# Altium integrated library Analog Devices Data Converters Digital-to-Analog Converters.IntLib: 2231 symbols (part 118 of 181)
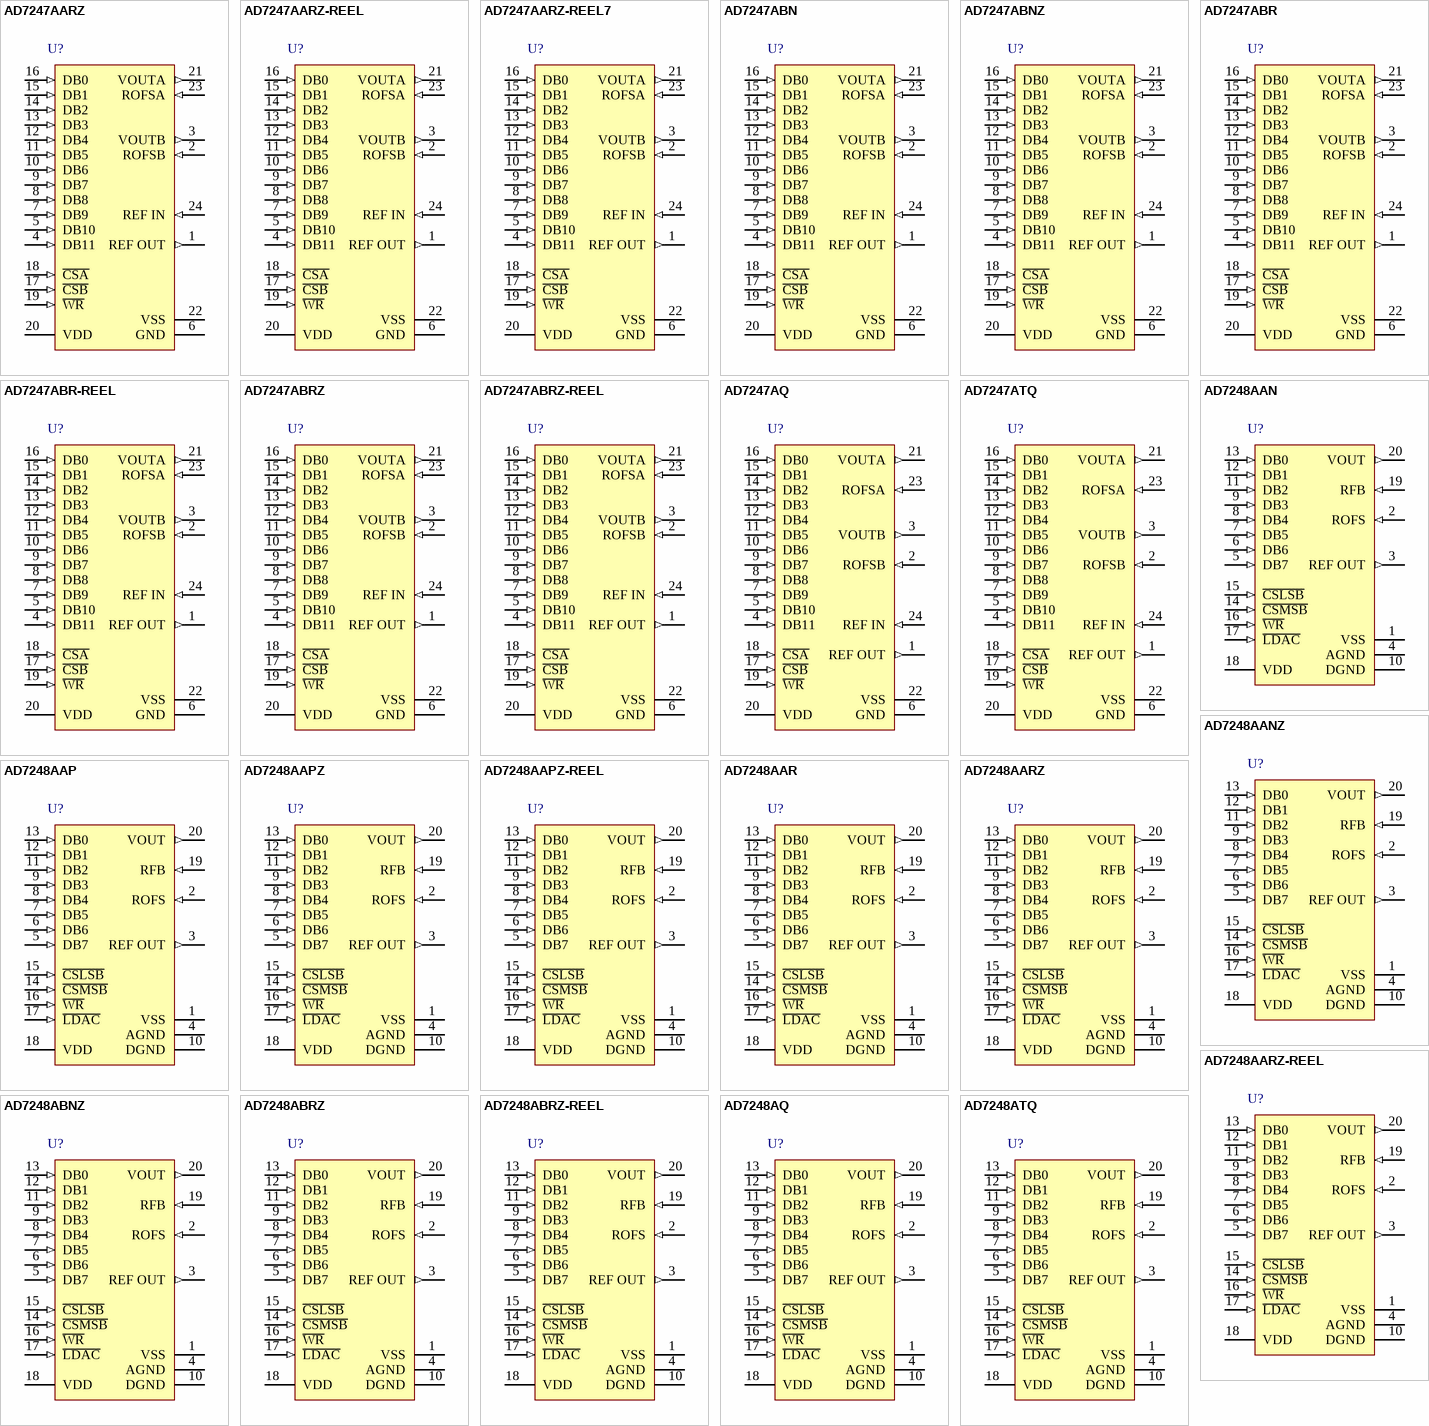
[diagram p231: symbols AD7247AARZ to AD7248ATQ]

## AD7248ATQ
designator U?
Single 12-Bit LC2MOS DACPORT, 0 to +70 degC, Q-20, Tube; Generic Part Number: AD7248A; Manufacturer: Analog Devices; PartNumber: AD7248ATQ; # DAC Outputs: 1; Max V+: +16.5V; Resolution (Bits): 12; Settling Time: 7µs; Single Supply: Yes; DatasheetVersion: Rev.B; PackageVersion: Dec-2004; PackageReference: Q-20; PackageDescription: 20-Lead Ceramic Dual In-Line Package [CERDIP]; Supplier 1: Digi-Key; Supplier Part Number 1: AD7248ATQ-ND; Supplier 2: Mouser; Supplier Part Number 2: 584-AD7248ATQ; Packing: Tube; RoHS: N; Mounting Technology: Through Hole; ComponentLink1Description: Manufacturer URL; ComponentLink1URL: http://www.analog.com/en/index.html; ComponentLink2Description: Datasheet; ComponentLink2URL: http://www.analog.com/static/imported-files/data_sheets/AD7245A_7248A.pdf; ComponentLink3Description: Package Specification; ComponentLink3URL: http://www.analog.com/static/imported-files/packages/50516416473314Q_20.pdf; ComponentLink4Description: Product URL; ComponentLink4URL: http://www.analog.com/en/digital-to-analog-converters/da-converters/ad7248a/products/product.html
footprint Q-20 (DIP, 20-Leads, Row Spacing 7.62mm, Pitch 2.54mm, Body 25.9x6.7mm)
pins: 1 VSS (power) "Negative Supply Voltage (0 V for single supply operation).", 2 ROFS (in) "Bipolar Offset Resistor. This provides access to the on-chip application resistors and allows different output voltage ranges.", 3 REF OUT (out) "Reference Output. The on-chip reference is provided at this pin and is used when configuring the part for bipolar outputs.", 4 AGND (power) "Analog Ground.", 5 DB7 (in) "Data Bit 7.", 6 DB6 (in) "Data Bit 6.", 7 DB5 (in) "Data Bit 5.", 8 DB4 (in) "Data Bit 4.", 9 DB3 (in) "Data Bit 3.", 10 DGND (power) "Digital Ground.", 11 DB2 (in) "Data Bit 2/Data Bit 10.", 12 DB1 (in) "Data Bit 1/Data Bit 9.", 13 DB0 (in) "Data Bit 0 (LSB)/Data Bit 8.", 14 ~{CSMSB} (in) "Chip Select Input for MS Nibble. (Active LOW). This selects the upper 4 bits of the input latch. Input data is right justified.", 15 ~{CSLSB} (in) "Chip Select Input for LS byte. (Active LOW). This selects the lower 8 bits of the input latch.", 16 ~{WR} (in) "Write Input. This is used in conjunction with C\S\M\S\B\ and C\S\L\S\B\ to load data into the input latch of the AD7248A.", 17 ~{LDAC} (in) "Load DAC Input (Active LOW). This is an asynchronous input which when active transfers data from the input latch to the DAC latch.", 18 VDD (power) "Positive Supply Voltage.", 19 RFB (in) "Feedback Resistor. This allows access to the amplifier's feedback loop.", 20 VOUT (out) "Output Voltage. Three different output voltage ranges can be chosen: 0 V to 5 V, 0 V to 10 V or -5 V to +5 V."

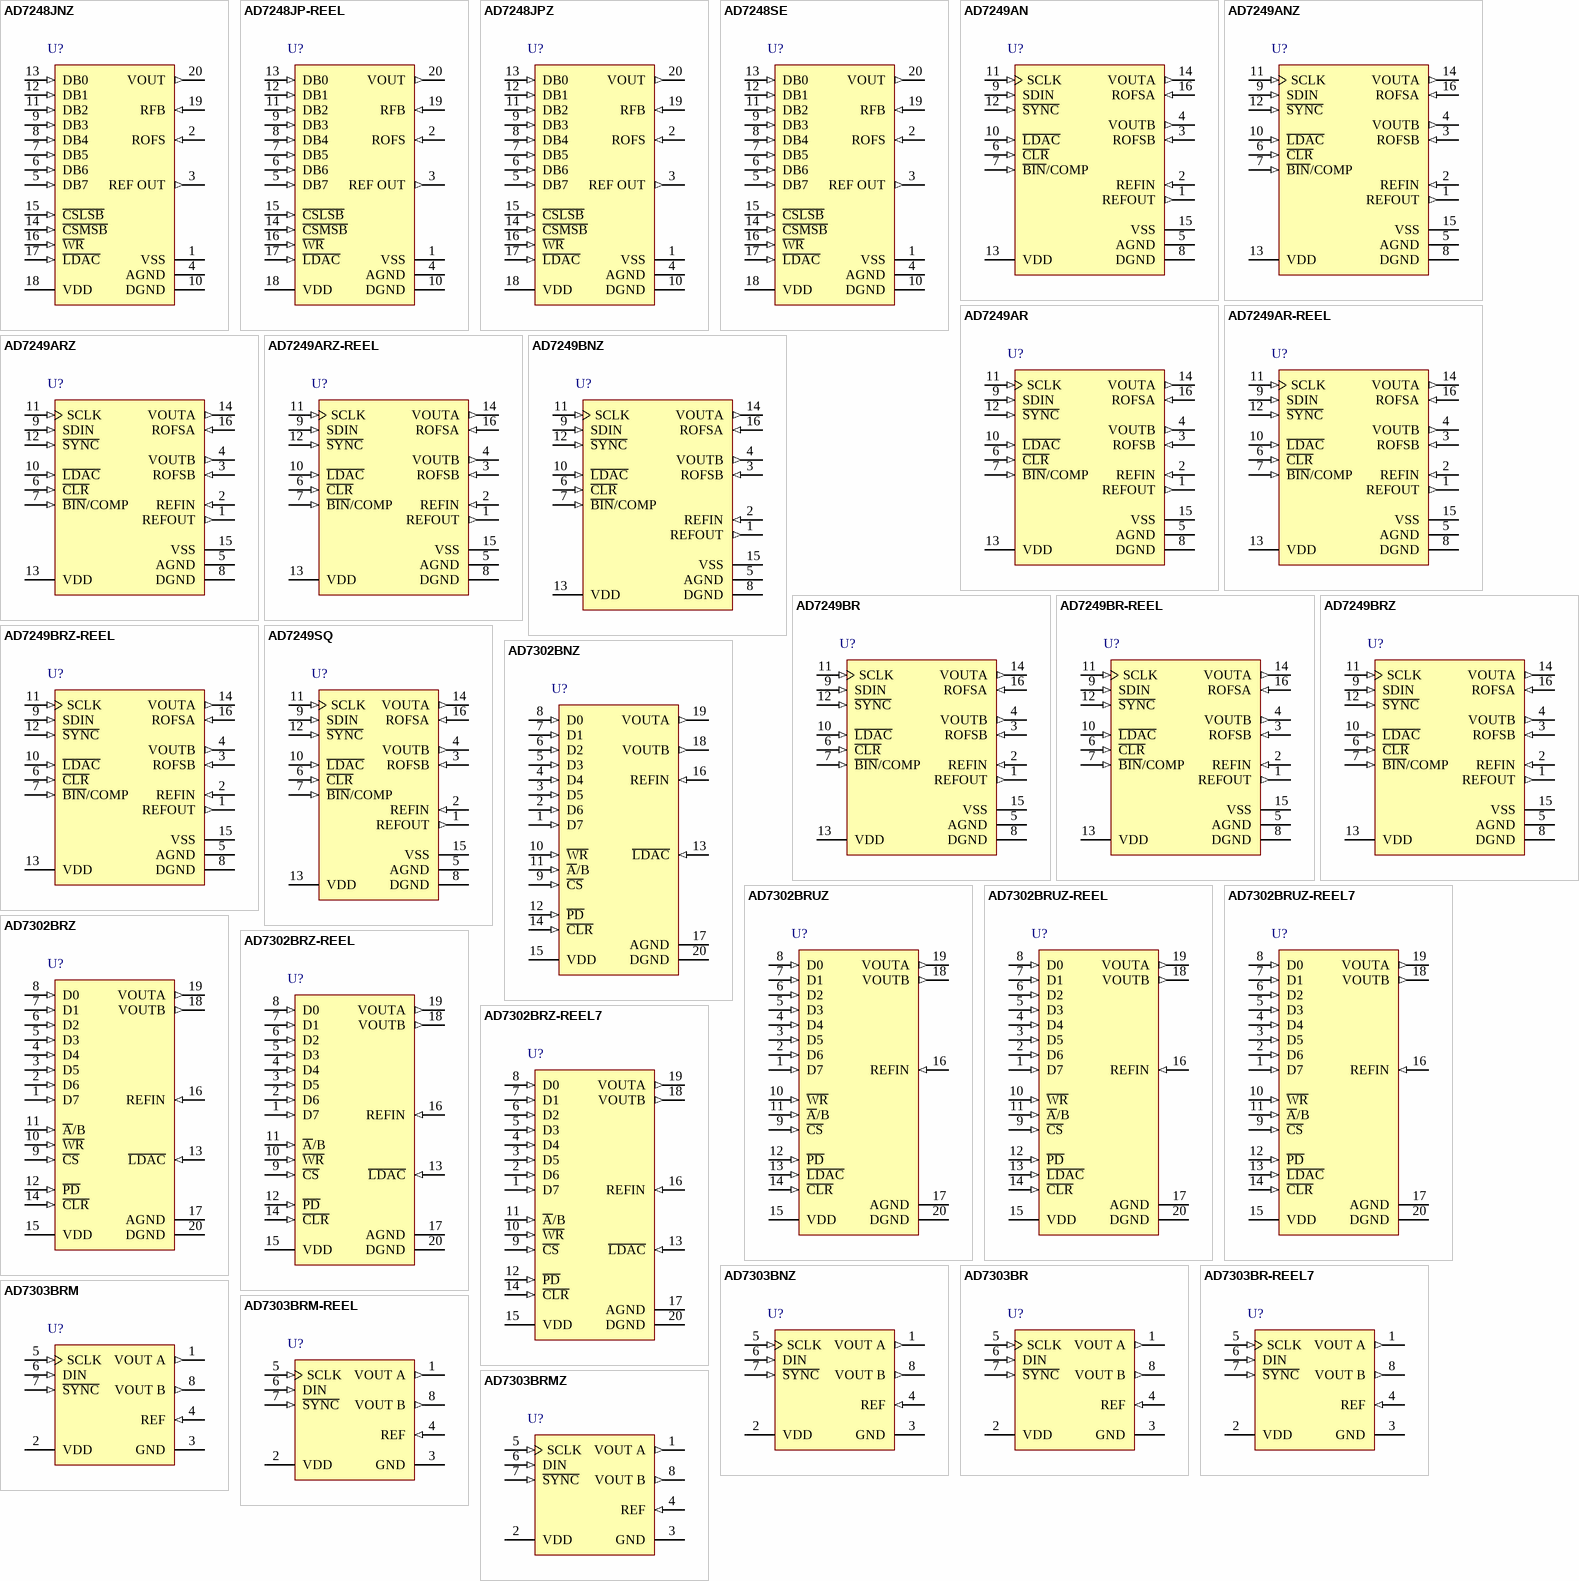
[diagram p63: symbols AD7248JNZ to AD7303BRMZ]

## AD7248JNZ
designator U?
Single 12-Bit LC2MOS DACPORT, 0 to +70 degC, N-20, Pb-Free, Tube; Generic Part Number: AD7248A; Manufacturer: Analog Devices; PartNumber: AD7248JNZ; # DAC Outputs: 1; Max V+: +16.5V; Resolution (Bits): 12; Settling Time: 7µs; Single Supply: Yes; DatasheetVersion: Rev.B; PackageVersion: 070706-A; PackageReference: N-20; PackageDescription: 20-Lead Plastic Dual In-Line Package [PDIP] Narrow Body; Supplier 1: Digi-Key; Supplier Part Number 1: AD7248JNZ-ND; Supplier 2: Farnell; Supplier Part Number 2: 1523780; Supplier 3: Farnell; Supplier Part Number 3: 1079369; Supplier 4: Newark; Supplier Part Number 4: 31M4227; Supplier 5: Newark; Supplier Part Number 5: 19M0852; Supplier 6: Mouser; Supplier Part Number 6: 584-AD7248JNZ; Packing: Tube; RoHS: Y; Mounting Technology: Through Hole; Code_JEDEC: MS-001; ComponentLink1Description: Manufacturer URL; ComponentLink1URL: http://www.analog.com/en/index.html; ComponentLink2Description: Datasheet; ComponentLink2URL: http://www.analog.com/static/imported-files/data_sheets/AD7245A_7248A.pdf; ComponentLink3Description: Package Specification; ComponentLink3URL: http://www.analog.com/static/imported-files/packages/50601349676519N_20.pdf; ComponentLink4Description: Product URL; ComponentLink4URL: http://www.analog.com/en/digital-to-analog-converters/da-converters/ad7248a/products/product.html
footprint N-20 (DIP, 20-Leads, Row Spacing 7.62mm, Pitch 2.54mm, Body 25.9x6.6mm)
pins: 1 VSS (power) "Negative Supply Voltage (0 V for single supply operation).", 2 ROFS (in) "Bipolar Offset Resistor. This provides access to the on-chip application resistors and allows different output voltage ranges.", 3 REF OUT (out) "Reference Output. The on-chip reference is provided at this pin and is used when configuring the part for bipolar outputs.", 4 AGND (power) "Analog Ground.", 5 DB7 (in) "Data Bit 7.", 6 DB6 (in) "Data Bit 6.", 7 DB5 (in) "Data Bit 5.", 8 DB4 (in) "Data Bit 4.", 9 DB3 (in) "Data Bit 3.", 10 DGND (power) "Digital Ground.", 11 DB2 (in) "Data Bit 2/Data Bit 10.", 12 DB1 (in) "Data Bit 1/Data Bit 9.", 13 DB0 (in) "Data Bit 0 (LSB)/Data Bit 8.", 14 ~{CSMSB} (in) "Chip Select Input for MS Nibble. (Active LOW). This selects the upper 4 bits of the input latch. Input data is right justified.", 15 ~{CSLSB} (in) "Chip Select Input for LS byte. (Active LOW). This selects the lower 8 bits of the input latch.", 16 ~{WR} (in) "Write Input. This is used in conjunction with C\S\M\S\B\ and C\S\L\S\B\ to load data into the input latch of the AD7248A.", 17 ~{LDAC} (in) "Load DAC Input (Active LOW). This is an asynchronous input which when active transfers data from the input latch to the DAC latch.", 18 VDD (power) "Positive Supply Voltage.", 19 RFB (in) "Feedback Resistor. This allows access to the amplifier’s feedback loop.", 20 VOUT (out) "Output Voltage. Three different output voltage ranges can be chosen: 0 V to 5 V, 0 V to 10 V or -5 V to +5 V."

## AD7248JP-REEL
designator U?
Single 12-Bit LC2MOS DACPORT, 0 to +70 degC, P-20A, Reel; Generic Part Number: AD7248A; Manufacturer: Analog Devices; PartNumber: AD7248JP-REEL; # DAC Outputs: 1; Max V+: +16.5V; Resolution (Bits): 12; Settling Time: 7µs; Single Supply: Yes; DatasheetVersion: Rev.B; PackageVersion: Nov-2002; PackageReference: P-20A; PackageDescription: 20-Lead Plastic Leaded Chip Carrier [PLCC]; Supplier 1: Digi-Key; Supplier Part Number 1: AD7248JP-REELTR-ND; Supplier 2: Digi-Key; Supplier Part Number 2: AD7248JP-REELCT-ND; Supplier 3: Digi-Key; Supplier Part Number 3: AD7248JP-REELDKR-ND; Supplier 4: Mouser; Supplier Part Number 4: 584-AD7248JP-R; Packing: Reel; RoHS: N; Mounting Technology: Surface Mount; Code_JEDEC: MO-047-AA; ComponentLink1Description: Manufacturer URL; ComponentLink1URL: http://www.analog.com/en/index.html; ComponentLink2Description: Datasheet; ComponentLink2URL: http://www.analog.com/static/imported-files/data_sheets/AD7245A_7248A.pdf; ComponentLink3Description: Package Specification; ComponentLink3URL: http://www.analog.com/static/imported-files/packages/3121431516544404277643669223804694P20A.pdf; ComponentLink4Description: Product URL; ComponentLink4URL: http://www.analog.com/en/digital-to-analog-converters/da-converters/ad7248a/products/product.html
footprint P-20A_N (Leaded Chip Carrier, 20-Leads, Body 9x9mm, Pitch 1.27mm, IPC Medium Density)
footprint P-20A_L (Leaded Chip Carrier, 20-Leads, Body 9x9mm, Pitch 1.27mm, IPC High Density)
footprint P-20A_M (Leaded Chip Carrier, 20-Leads, Body 9x9mm, Pitch 1.27mm, IPC Low Density)
pins: 1 VSS (power) "Negative Supply Voltage (0 V for single supply operation).", 2 ROFS (in) "Bipolar Offset Resistor. This provides access to the on-chip application resistors and allows different output voltage ranges.", 3 REF OUT (out) "Reference Output. The on-chip reference is provided at this pin and is used when configuring the part for bipolar outputs.", 4 AGND (power) "Analog Ground.", 5 DB7 (in) "Data Bit 7.", 6 DB6 (in) "Data Bit 6.", 7 DB5 (in) "Data Bit 5.", 8 DB4 (in) "Data Bit 4.", 9 DB3 (in) "Data Bit 3.", 10 DGND (power) "Digital Ground.", 11 DB2 (in) "Data Bit 2/Data Bit 10.", 12 DB1 (in) "Data Bit 1/Data Bit 9.", 13 DB0 (in) "Data Bit 0 (LSB)/Data Bit 8.", 14 ~{CSMSB} (in) "Chip Select Input for MS Nibble. (Active LOW). This selects the upper 4 bits of the input latch. Input data is right justified.", 15 ~{CSLSB} (in) "Chip Select Input for LS byte. (Active LOW). This selects the lower 8 bits of the input latch.", 16 ~{WR} (in) "Write Input. This is used in conjunction with C\S\M\S\B\ and C\S\L\S\B\ to load data into the input latch of the AD7248A.", 17 ~{LDAC} (in) "Load DAC Input (Active LOW). This is an asynchronous input which when active transfers data from the input latch to the DAC latch.", 18 VDD (power) "Positive Supply Voltage.", 19 RFB (in) "Feedback Resistor. This allows access to the amplifier’s feedback loop.", 20 VOUT (out) "Output Voltage. Three different output voltage ranges can be chosen: 0 V to 5 V, 0 V to 10 V or -5 V to +5 V."

## AD7248JPZ
designator U?
Single 12-Bit LC2MOS DACPORT, 0 to +70 degC, P-20A, Pb-Free, Tube; Generic Part Number: AD7248A; Manufacturer: Analog Devices; PartNumber: AD7248JPZ; # DAC Outputs: 1; Max V+: +16.5V; Resolution (Bits): 12; Settling Time: 7µs; Single Supply: Yes; DatasheetVersion: Rev.B; PackageVersion: Nov-2002; PackageReference: P-20A; PackageDescription: 20-Lead Plastic Leaded Chip Carrier [PLCC]; Supplier 1: Digi-Key; Supplier Part Number 1: AD7248JPZ-ND; Supplier 2: Mouser; Supplier Part Number 2: 584-AD7248JPZ; Packing: Tube; RoHS: Y; Mounting Technology: Surface Mount; Code_JEDEC: MO-047-AA; ComponentLink1Description: Manufacturer URL; ComponentLink1URL: http://www.analog.com/en/index.html; ComponentLink2Description: Datasheet; ComponentLink2URL: http://www.analog.com/static/imported-files/data_sheets/AD7245A_7248A.pdf; ComponentLink3Description: Package Specification; ComponentLink3URL: http://www.analog.com/static/imported-files/packages/3121431516544404277643669223804694P20A.pdf; ComponentLink4Description: Product URL; ComponentLink4URL: http://www.analog.com/en/digital-to-analog-converters/da-converters/ad7248a/products/product.html
footprint P-20A_N (Leaded Chip Carrier, 20-Leads, Body 9x9mm, Pitch 1.27mm, IPC Medium Density)
footprint P-20A_L (Leaded Chip Carrier, 20-Leads, Body 9x9mm, Pitch 1.27mm, IPC High Density)
footprint P-20A_M (Leaded Chip Carrier, 20-Leads, Body 9x9mm, Pitch 1.27mm, IPC Low Density)
pins: 1 VSS (power) "Negative Supply Voltage (0 V for single supply operation).", 2 ROFS (in) "Bipolar Offset Resistor. This provides access to the on-chip application resistors and allows different output voltage ranges.", 3 REF OUT (out) "Reference Output. The on-chip reference is provided at this pin and is used when configuring the part for bipolar outputs.", 4 AGND (power) "Analog Ground.", 5 DB7 (in) "Data Bit 7.", 6 DB6 (in) "Data Bit 6.", 7 DB5 (in) "Data Bit 5.", 8 DB4 (in) "Data Bit 4.", 9 DB3 (in) "Data Bit 3.", 10 DGND (power) "Digital Ground.", 11 DB2 (in) "Data Bit 2/Data Bit 10.", 12 DB1 (in) "Data Bit 1/Data Bit 9.", 13 DB0 (in) "Data Bit 0 (LSB)/Data Bit 8.", 14 ~{CSMSB} (in) "Chip Select Input for MS Nibble. (Active LOW). This selects the upper 4 bits of the input latch. Input data is right justified.", 15 ~{CSLSB} (in) "Chip Select Input for LS byte. (Active LOW). This selects the lower 8 bits of the input latch.", 16 ~{WR} (in) "Write Input. This is used in conjunction with C\S\M\S\B\ and C\S\L\S\B\ to load data into the input latch of the AD7248A.", 17 ~{LDAC} (in) "Load DAC Input (Active LOW). This is an asynchronous input which when active transfers data from the input latch to the DAC latch.", 18 VDD (power) "Positive Supply Voltage.", 19 RFB (in) "Feedback Resistor. This allows access to the amplifier’s feedback loop.", 20 VOUT (out) "Output Voltage. Three different output voltage ranges can be chosen: 0 V to 5 V, 0 V to 10 V or -5 V to +5 V."

## AD7248SE
designator U?
Single 12-Bit LC2MOS DACPORT, -55 to +125 degC, E-20-1, Tube; Generic Part Number: AD7248A; Manufacturer: Analog Devices; PartNumber: AD7248SE; # DAC Outputs: 1; Max V+: +16.5V; Resolution (Bits): 12; Settling Time: 7µs; Single Supply: Yes; DatasheetVersion: Rev.B; PackageVersion: 022106-A; PackageReference: E-20-1; PackageDescription: 20-Terminal Ceramic Leadless Chip Carrier [LCC]; Supplier 1: Mouser; Supplier Part Number 1: N/A; Packing: Tube; RoHS: N; Mounting Technology: Surface Mount; ComponentLink1Description: Manufacturer URL; ComponentLink1URL: http://www.analog.com/en/index.html; ComponentLink2Description: Datasheet; ComponentLink2URL: http://www.analog.com/static/imported-files/data_sheets/AD7245A_7248A.pdf; ComponentLink3Description: Package Specification; ComponentLink3URL: http://www.analog.com/static/imported-files/packages/PKG_PDF/LCC(E)/E_20_1.pdf; ComponentLink4Description: Product URL; ComponentLink4URL: http://www.analog.com/en/digital-to-analog-converters/da-converters/ad7248a/products/product.html
footprint E-20-1_N (Leadless Chip Carrier, 20-Leads, Body 8.9x8.9mm, Pitch 1.27mm, IPC Medium Density)
footprint E-20-1_L (Leadless Chip Carrier, 20-Leads, Body 8.9x8.9mm, Pitch 1.27mm, IPC High Density)
footprint E-20-1_M (Leadless Chip Carrier, 20-Leads, Body 8.9x8.9mm, Pitch 1.27mm, IPC Low Density)
pins: 1 VSS (power) "Negative Supply Voltage (0 V for single supply operation).", 2 ROFS (in) "Bipolar Offset Resistor. This provides access to the on-chip application resistors and allows different output voltage ranges.", 3 REF OUT (out) "Reference Output. The on-chip reference is provided at this pin and is used when configuring the part for bipolar outputs.", 4 AGND (power) "Analog Ground.", 5 DB7 (in) "Data Bit 7.", 6 DB6 (in) "Data Bit 6.", 7 DB5 (in) "Data Bit 5.", 8 DB4 (in) "Data Bit 4.", 9 DB3 (in) "Data Bit 3.", 10 DGND (power) "Digital Ground.", 11 DB2 (in) "Data Bit 2/Data Bit 10.", 12 DB1 (in) "Data Bit 1/Data Bit 9.", 13 DB0 (in) "Data Bit 0 (LSB)/Data Bit 8.", 14 ~{CSMSB} (in) "Chip Select Input for MS Nibble. (Active LOW). This selects the upper 4 bits of the input latch. Input data is right justified.", 15 ~{CSLSB} (in) "Chip Select Input for LS byte. (Active LOW). This selects the lower 8 bits of the input latch.", 16 ~{WR} (in) "Write Input. This is used in conjunction with C\S\M\S\B\ and C\S\L\S\B\ to load data into the input latch of the AD7248A.", 17 ~{LDAC} (in) "Load DAC Input (Active LOW). This is an asynchronous input which when active transfers data from the input latch to the DAC latch.", 18 VDD (power) "Positive Supply Voltage.", 19 RFB (in) "Feedback Resistor. This allows access to the amplifier’s feedback loop.", 20 VOUT (out) "Output Voltage. Three different output voltage ranges can be chosen: 0 V to 5 V, 0 V to 10 V or -5 V to +5 V."

## AD7249AN
designator U?
Dual 12-Bit LC2MOS DACPORT, 0 to +70 degC, N-16, Tube; Generic Part Number: AD7249; Manufacturer: Analog Devices; PartNumber: AD7249AN; # DAC Outputs: 2; Max V+: 16.5V; Op Pwr Diss: 300mW; Resolution (Bits): 12; Settling Time: 7µs; Single Supply: Yes; DatasheetVersion: Rev.C; PackageVersion: 070706-A; PackageReference: N-16; PackageDescription: 16-Lead Plastic Dual In-Line Package [PDIP] Narrow Body; Supplier 1: Digi-Key; Supplier Part Number 1: AD7249AN-ND; Supplier 2: Mouser; Supplier Part Number 2: 584-AD7249AN; Packing: Tube; RoHS: N; Mounting Technology: Through Hole; Code_JEDEC: MS-001; ComponentLink1Description: Manufacturer URL; ComponentLink1URL: http://www.analog.com/en/index.html; ComponentLink2Description: Datasheet; ComponentLink2URL: http://www.analog.com/static/imported-files/data_sheets/AD7249.pdf; ComponentLink3Description: Package Specification; ComponentLink3URL: http://www.analog.com/static/imported-files/packages/44768431550332N_16.pdf; ComponentLink4Description: Product URL; ComponentLink4URL: http://www.analog.com/en/digital-to-analog-converters/da-converters/ad7249/products/product.html
footprint N-16 (DIP, 16-Leads, Row Spacing 7.62mm, Pitch 2.54mm, Body 20.1x6.6mm)
pins: 1 REFOUT (out) "Voltage Reference Output. The internal 5 V analog reference is provided at this pin. To operate the part using its internal reference, REFOUT should be connected to REFIN.", 2 REFIN (in) "Voltage Reference Input. It is internally buffered before being applied to both DACs. The nominal reference voltage for specified operation of the AD7249 is 5 V.", 3 ROFSB (in) "Output Offset Resistor for the amplifier of DAC B. It is connected to VOUTB for the +5 V range, to AGND for the +10 V range and to REFIN for the -5 V to +5 V range.", 4 VOUTB (out) "Analog Output Voltage of DAC B. This is the buffer amplifier output voltage. Three different output voltage ranges can be chosen: 0 V to +5 V, 0 V to +10 V and -5 V to +5 V.", 5 AGND (power) "Analog Ground. Ground reference for all analog circuitry.", 6 ~{CLR} (in) "Clear, Logic Input. Taking this input low clears both DACs. It sets VOUTA and VOUTB to 0 V in both unipolar ranges and the twos complement bipolar range and to -REFIN in the offset binary bipolar range.", 7 ~{BIN}/COMP (in) "Logic Input. This input selects the data format to be either binary or twos complement. In both unipolar ranges natural binary format is selected by connecting this input to a Logic "0". In the bipolar configuration offset (See Datasheet)", 8 DGND (power) "Digital Ground. Ground reference for all digital circuitry.", 9 SDIN (in) "Serial Data In, Logic Input. The 16-bit serial data word is applied to this input.", 10 ~{LDAC} (in) "Load DAC, Logic Input. Updates both DAC outputs. The DAC outputs are updated on the falling edge of this signal or alternatively if this line is permanently low, an automatic update mode is selected whereby both DACs are (See Datasheet)", 11 SCLK (in) "Serial Clock, Logic Input. Data is clocked into the input register on each falling SCLK edge.", 12 ~{SYNC} (in) "Data Synchronization Pulse, Logic Input. Taking this input low initializes the internal logic in readiness for a new data word.", 13 VDD (power) "Positive Power Supply.", 14 VOUTA (out) "Analog Output Voltage of DAC A. This is the buffer amplifier output voltage. Three different output voltage ranges can be chosen: 0 V to +5 V, 0 V to +10 V and -5 V to +5 V.", 15 VSS (power) "Negative Power Supply (used for the output amplifier only) may be connected to 0 V for single supply operation or -12 V to -15 V for dual supplies.", 16 ROFSA (in) "Output Offset Resistor for the amplifier of DAC A. It is connected to VOUTA for the +5 V range, to AGND for the +10 V range and to REFIN for the -5 V to +5 V range."

## AD7249ANZ
designator U?
Dual 12-Bit LC2MOS DACPORT, 0 to +70 degC, N-16, Pb-Free, Tube; Generic Part Number: AD7249; Manufacturer: Analog Devices; PartNumber: AD7249ANZ; # DAC Outputs: 2; Max V+: 16.5V; Op Pwr Diss: 300mW; Resolution (Bits): 12; Settling Time: 7µs; Single Supply: Yes; DatasheetVersion: Rev.C; PackageVersion: 070706-A; PackageReference: N-16; PackageDescription: 16-Lead Plastic Dual In-Line Package [PDIP] Narrow Body; Supplier 1: Digi-Key; Supplier Part Number 1: AD7249ANZ-ND; Supplier 2: Farnell; Supplier Part Number 2: 1438400; Supplier 3: Newark; Supplier Part Number 3: 59K4641; Supplier 4: Mouser; Supplier Part Number 4: 584-AD7249ANZ; Packing: Tube; RoHS: Y; Mounting Technology: Through Hole; Code_JEDEC: MS-001; ComponentLink1Description: Manufacturer URL; ComponentLink1URL: http://www.analog.com/en/index.html; ComponentLink2Description: Datasheet; ComponentLink2URL: http://www.analog.com/static/imported-files/data_sheets/AD7249.pdf; ComponentLink3Description: Package Specification; ComponentLink3URL: http://www.analog.com/static/imported-files/packages/44768431550332N_16.pdf; ComponentLink4Description: Product URL; ComponentLink4URL: http://www.analog.com/en/digital-to-analog-converters/da-converters/ad7249/products/product.html
footprint N-16 (DIP, 16-Leads, Row Spacing 7.62mm, Pitch 2.54mm, Body 20.1x6.6mm)
pins: 1 REFOUT (out) "Voltage Reference Output. The internal 5 V analog reference is provided at this pin. To operate the part using its internal reference, REFOUT should be connected to REFIN.", 2 REFIN (in) "Voltage Reference Input. It is internally buffered before being applied to both DACs. The nominal reference voltage for specified operation of the AD7249 is 5 V.", 3 ROFSB (in) "Output Offset Resistor for the amplifier of DAC B. It is connected to VOUTB for the +5 V range, to AGND for the +10 V range and to REFIN for the -5 V to +5 V range.", 4 VOUTB (out) "Analog Output Voltage of DAC B. This is the buffer amplifier output voltage. Three different output voltage ranges can be chosen: 0 V to +5 V, 0 V to +10 V and -5 V to +5 V.", 5 AGND (power) "Analog Ground. Ground reference for all analog circuitry.", 6 ~{CLR} (in) "Clear, Logic Input. Taking this input low clears both DACs. It sets VOUTA and VOUTB to 0 V in both unipolar ranges and the twos complement bipolar range and to -REFIN in the offset binary bipolar range.", 7 ~{BIN}/COMP (in) "Logic Input. This input selects the data format to be either binary or twos complement. In both unipolar ranges natural binary format is selected by connecting this input to a Logic "0". In the bipolar configuration offset (See Datasheet)", 8 DGND (power) "Digital Ground. Ground reference for all digital circuitry.", 9 SDIN (in) "Serial Data In, Logic Input. The 16-bit serial data word is applied to this input.", 10 ~{LDAC} (in) "Load DAC, Logic Input. Updates both DAC outputs. The DAC outputs are updated on the falling edge of this signal or alternatively if this line is permanently low, an automatic update mode is selected whereby both DACs are (See Datasheet)", 11 SCLK (in) "Serial Clock, Logic Input. Data is clocked into the input register on each falling SCLK edge.", 12 ~{SYNC} (in) "Data Synchronization Pulse, Logic Input. Taking this input low initializes the internal logic in readiness for a new data word.", 13 VDD (power) "Positive Power Supply.", 14 VOUTA (out) "Analog Output Voltage of DAC A. This is the buffer amplifier output voltage. Three different output voltage ranges can be chosen: 0 V to +5 V, 0 V to +10 V and -5 V to +5 V.", 15 VSS (power) "Negative Power Supply (used for the output amplifier only) may be connected to 0 V for single supply operation or -12 V to -15 V for dual supplies.", 16 ROFSA (in) "Output Offset Resistor for the amplifier of DAC A. It is connected to VOUTA for the +5 V range, to AGND for the +10 V range and to REFIN for the -5 V to +5 V range."

## AD7249AR
designator U?
Dual 12-Bit LC2MOS DACPORT, -40 to +85 degC, RW-16, Tube; Generic Part Number: AD7249; Manufacturer: Analog Devices; PartNumber: AD7249AR; # DAC Outputs: 2; Max V+: 16.5V; Op Pwr Diss: 300mW; Resolution (Bits): 12; Settling Time: 7µs; Single Supply: Yes; DatasheetVersion: Rev.C; PackageVersion: 032707-B; PackageReference: RW-16; PackageDescription: 16-Lead Standard Small Outline Package [SOIC_W]; Supplier 1: Digi-Key; Supplier Part Number 1: AD7249AR-ND; Supplier 2: Mouser; Supplier Part Number 2: 584-AD7249AR; Packing: Tube; RoHS: N; Mounting Technology: Surface Mount; Code_JEDEC: MS-013-AA; Code_IPC: SOIC127P1030-16; ComponentLink1Description: Manufacturer URL; ComponentLink1URL: http://www.analog.com/en/index.html; ComponentLink2Description: Datasheet; ComponentLink2URL: http://www.analog.com/static/imported-files/data_sheets/AD7249.pdf; ComponentLink3Description: Package Specification; ComponentLink3URL: http://www.analog.com/static/imported-files/packages/PKG_PDF/SOIC_WIDE%20%28RW%29/RW_16.pdf; ComponentLink4Description: Product URL; ComponentLink4URL: http://www.analog.com/en/digital-to-analog-converters/da-converters/ad7249/products/product.html
footprint RW-16_N (SOIC, 16-Leads, Body 10.3x7.5mm, Pitch 1.27mm, IPC Medium Density)
footprint RW-16_L (SOIC, 16-Leads, Body 10.3x7.5mm, Pitch 1.27mm, IPC High Density)
footprint RW-16_M (SOIC, 16-Leads, Body 10.3x7.5mm, Pitch 1.27mm, IPC Low Density)
pins: 1 REFOUT (out) "Voltage Reference Output. The internal 5 V analog reference is provided at this pin. To operate the part using its internal reference, REFOUT should be connected to REFIN.", 2 REFIN (in) "Voltage Reference Input. It is internally buffered before being applied to both DACs. The nominal reference voltage for specified operation of the AD7249 is 5 V.", 3 ROFSB (in) "Output Offset Resistor for the amplifier of DAC B. It is connected to VOUTB for the +5 V range, to AGND for the +10 V range and to REFIN for the -5 V to +5 V range.", 4 VOUTB (out) "Analog Output Voltage of DAC B. This is the buffer amplifier output voltage. Three different output voltage ranges can be chosen: 0 V to +5 V, 0 V to +10 V and -5 V to +5 V.", 5 AGND (power) "Analog Ground. Ground reference for all analog circuitry.", 6 ~{CLR} (in) "Clear, Logic Input. Taking this input low clears both DACs. It sets VOUTA and VOUTB to 0 V in both unipolar ranges and the twos complement bipolar range and to -REFIN in the offset binary bipolar range.", 7 ~{BIN}/COMP (in) "Logic Input. This input selects the data format to be either binary or twos complement. In both unipolar ranges natural binary format is selected by connecting this input to a Logic "0". In the bipolar configuration offset (See Datasheet)", 8 DGND (power) "Digital Ground. Ground reference for all digital circuitry", 9 SDIN (in) "Serial Data In, Logic Input. The 16-bit serial data word is applied to this input.", 10 ~{LDAC} (in) "Load DAC, Logic Input. Updates both DAC outputs. The DAC outputs are updated on the falling edge of this signal or alternatively if this line is permanently low, an automatic update mode is selected whereby both DACs are (See Datasheet)", 11 SCLK (in) "Serial Clock, Logic Input. Data is clocked into the input register on each falling SCLK edge.", 12 ~{SYNC} (in) "Data Synchronization Pulse, Logic Input. Taking this input low initializes the internal logic in readiness for a new data word.", 13 VDD (power) "Positive Power Supply", 14 VOUTA (out) "Analog Output Voltage of DAC A. This is the buffer amplifier output voltage. Three different output voltage ranges can be chosen: 0 V to +5 V, 0 V to +10 V and -5 V to +5 V", 15 VSS (power) "Negative Power Supply (used for the output amplifier only) may be connected to 0 V for single supply operation or -12 V to -15 V for dual supplies.", 16 ROFSA (in) "Output Offset Resistor for the amplifier of DAC A. It is connected to VOUTA for the +5 V range, to AGND for the +10 V range and to REFIN for the -5 V to +5 V range."

## AD7249AR-REEL
designator U?
Dual 12-Bit LC2MOS DACPORT, -40 to +85 degC, RW-16, Reel; Generic Part Number: AD7249; Manufacturer: Analog Devices; PartNumber: AD7249AR-REEL; # DAC Outputs: 2; Max V+: 16.5V; Op Pwr Diss: 300mW; Resolution (Bits): 12; Settling Time: 7µs; Single Supply: Yes; DatasheetVersion: Rev.C; PackageVersion: 032707-B; PackageReference: RW-16; PackageDescription: 16-Lead Standard Small Outline Package [SOIC_W]; Supplier 1: Mouser; Supplier Part Number 1: 584-AD7249AR-R; Packing: Reel; RoHS: N; Mounting Technology: Surface Mount; Code_JEDEC: MS-013-AA; Code_IPC: SOIC127P1030-16; ComponentLink1Description: Manufacturer URL; ComponentLink1URL: http://www.analog.com/en/index.html; ComponentLink2Description: Datasheet; ComponentLink2URL: http://www.analog.com/static/imported-files/data_sheets/AD7249.pdf; ComponentLink3Description: Package Specification; ComponentLink3URL: http://www.analog.com/static/imported-files/packages/PKG_PDF/SOIC_WIDE%20%28RW%29/RW_16.pdf; ComponentLink4Description: Product URL; ComponentLink4URL: http://www.analog.com/en/digital-to-analog-converters/da-converters/ad7249/products/product.html
footprint RW-16_N (SOIC, 16-Leads, Body 10.3x7.5mm, Pitch 1.27mm, IPC Medium Density)
footprint RW-16_L (SOIC, 16-Leads, Body 10.3x7.5mm, Pitch 1.27mm, IPC High Density)
footprint RW-16_M (SOIC, 16-Leads, Body 10.3x7.5mm, Pitch 1.27mm, IPC Low Density)
pins: 1 REFOUT (out) "Voltage Reference Output. The internal 5 V analog reference is provided at this pin. To operate the part using its internal reference, REFOUT should be connected to REFIN.", 2 REFIN (in) "Voltage Reference Input. It is internally buffered before being applied to both DACs. The nominal reference voltage for specified operation of the AD7249 is 5 V.", 3 ROFSB (in) "Output Offset Resistor for the amplifier of DAC B. It is connected to VOUTB for the +5 V range, to AGND for the +10 V range and to REFIN for the -5 V to +5 V range.", 4 VOUTB (out) "Analog Output Voltage of DAC B. This is the buffer amplifier output voltage. Three different output voltage ranges can be chosen: 0 V to +5 V, 0 V to +10 V and -5 V to +5 V.", 5 AGND (power) "Analog Ground. Ground reference for all analog circuitry.", 6 ~{CLR} (in) "Clear, Logic Input. Taking this input low clears both DACs. It sets VOUTA and VOUTB to 0 V in both unipolar ranges and the twos complement bipolar range and to -REFIN in the offset binary bipolar range.", 7 ~{BIN}/COMP (in) "Logic Input. This input selects the data format to be either binary or twos complement. In both unipolar ranges natural binary format is selected by connecting this input to a Logic "0". In the bipolar configuration offset (See Datasheet)", 8 DGND (power) "Digital Ground. Ground reference for all digital circuitry", 9 SDIN (in) "Serial Data In, Logic Input. The 16-bit serial data word is applied to this input.", 10 ~{LDAC} (in) "Load DAC, Logic Input. Updates both DAC outputs. The DAC outputs are updated on the falling edge of this signal or alternatively if this line is permanently low, an automatic update mode is selected whereby both DACs are (See Datasheet)", 11 SCLK (in) "Serial Clock, Logic Input. Data is clocked into the input register on each falling SCLK edge.", 12 ~{SYNC} (in) "Data Synchronization Pulse, Logic Input. Taking this input low initializes the internal logic in readiness for a new data word.", 13 VDD (power) "Positive Power Supply", 14 VOUTA (out) "Analog Output Voltage of DAC A. This is the buffer amplifier output voltage. Three different output voltage ranges can be chosen: 0 V to +5 V, 0 V to +10 V and -5 V to +5 V", 15 VSS (power) "Negative Power Supply (used for the output amplifier only) may be connected to 0 V for single supply operation or -12 V to -15 V for dual supplies.", 16 ROFSA (in) "Output Offset Resistor for the amplifier of DAC A. It is connected to VOUTA for the +5 V range, to AGND for the +10 V range and to REFIN for the -5 V to +5 V range."

## AD7249ARZ
designator U?
Dual 12-Bit LC2MOS DACPORT, 0 to +70 degC, RW-16, Pb-Free, Tube; Generic Part Number: AD7249; Manufacturer: Analog Devices; PartNumber: AD7249ARZ; # DAC Outputs: 2; Max V+: 16.5V; Op Pwr Diss: 300mW; Resolution (Bits): 12; Settling Time: 7µs; Single Supply: Yes; DatasheetVersion: Rev.C; PackageVersion: 032707-B; PackageReference: RW-16; PackageDescription: 16-Lead Standard Small Outline Package [SOIC_W]; Supplier 1: Digi-Key; Supplier Part Number 1: AD7249ARZ-ND; Supplier 2: Farnell; Supplier Part Number 2: 1438401; Supplier 3: Newark; Supplier Part Number 3: 87H9980; Supplier 4: Mouser; Supplier Part Number 4: 584-AD7249ARZ; Packing: Tube; RoHS: Y; Mounting Technology: Surface Mount; Code_JEDEC: MS-013-AA; Code_IPC: SOIC127P1030-16; ComponentLink1Description: Manufacturer URL; ComponentLink1URL: http://www.analog.com/en/index.html; ComponentLink2Description: Datasheet; ComponentLink2URL: http://www.analog.com/static/imported-files/data_sheets/AD7249.pdf; ComponentLink3Description: Package Specification; ComponentLink3URL: http://www.analog.com/static/imported-files/packages/PKG_PDF/SOIC_WIDE%20%28RW%29/RW_16.pdf; ComponentLink4Description: Product URL; ComponentLink4URL: http://www.analog.com/en/digital-to-analog-converters/da-converters/ad7249/products/product.html
footprint RW-16_N (SOIC, 16-Leads, Body 10.3x7.5mm, Pitch 1.27mm, IPC Medium Density)
footprint RW-16_L (SOIC, 16-Leads, Body 10.3x7.5mm, Pitch 1.27mm, IPC High Density)
footprint RW-16_M (SOIC, 16-Leads, Body 10.3x7.5mm, Pitch 1.27mm, IPC Low Density)
pins: 1 REFOUT (out) "Voltage Reference Output. The internal 5 V analog reference is provided at this pin. To operate the part using its internal reference, REFOUT should be connected to REFIN.", 2 REFIN (in) "Voltage Reference Input. It is internally buffered before being applied to both DACs. The nominal reference voltage for specified operation of the AD7249 is 5 V.", 3 ROFSB (in) "Output Offset Resistor for the amplifier of DAC B. It is connected to VOUTB for the +5 V range, to AGND for the +10 V range and to REFIN for the -5 V to +5 V range.", 4 VOUTB (out) "Analog Output Voltage of DAC B. This is the buffer amplifier output voltage. Three different output voltage ranges can be chosen: 0 V to +5 V, 0 V to +10 V and -5 V to +5 V.", 5 AGND (power) "Analog Ground. Ground reference for all analog circuitry.", 6 ~{CLR} (in) "Clear, Logic Input. Taking this input low clears both DACs. It sets VOUTA and VOUTB to 0 V in both unipolar ranges and the twos complement bipolar range and to -REFIN in the offset binary bipolar range.", 7 ~{BIN}/COMP (in) "Logic Input. This input selects the data format to be either binary or twos complement. In both unipolar ranges natural binary format is selected by connecting this input to a Logic "0". In the bipolar configuration offset (See Datasheet)", 8 DGND (power) "Digital Ground. Ground reference for all digital circuitry", 9 SDIN (in) "Serial Data In, Logic Input. The 16-bit serial data word is applied to this input.", 10 ~{LDAC} (in) "Load DAC, Logic Input. Updates both DAC outputs. The DAC outputs are updated on the falling edge of this signal or alternatively if this line is permanently low, an automatic update mode is selected whereby both DACs are (See Datasheet)", 11 SCLK (in) "Serial Clock, Logic Input. Data is clocked into the input register on each falling SCLK edge.", 12 ~{SYNC} (in) "Data Synchronization Pulse, Logic Input. Taking this input low initializes the internal logic in readiness for a new data word.", 13 VDD (power) "Positive Power Supply", 14 VOUTA (out) "Analog Output Voltage of DAC A. This is the buffer amplifier output voltage. Three different output voltage ranges can be chosen: 0 V to +5 V, 0 V to +10 V and -5 V to +5 V", 15 VSS (power) "Negative Power Supply (used for the output amplifier only) may be connected to 0 V for single supply operation or -12 V to -15 V for dual supplies.", 16 ROFSA (in) "Output Offset Resistor for the amplifier of DAC A. It is connected to VOUTA for the +5 V range, to AGND for the +10 V range and to REFIN for the -5 V to +5 V range."

## AD7249ARZ-REEL
designator U?
Dual 12-Bit LC2MOS DACPORT, 0 to +70 degC, RW-16, Pb-Free, Reel; Generic Part Number: AD7249; Manufacturer: Analog Devices; PartNumber: AD7249ARZ-REEL; # DAC Outputs: 2; Max V+: 16.5V; Op Pwr Diss: 300mW; Resolution (Bits): 12; Settling Time: 7µs; Single Supply: Yes; DatasheetVersion: Rev.C; PackageVersion: 032707-B; PackageReference: RW-16; PackageDescription: 16-Lead Standard Small Outline Package [SOIC_W]; Supplier 1: Digi-Key; Supplier Part Number 1: AD7249ARZ-REEL-ND; Supplier 2: Mouser; Supplier Part Number 2: 584-AD7249ARZ-R; Packing: Reel; RoHS: Y; Mounting Technology: Surface Mount; Code_JEDEC: MS-013-AA; Code_IPC: SOIC127P1030-16; ComponentLink1Description: Manufacturer URL; ComponentLink1URL: http://www.analog.com/en/index.html; ComponentLink2Description: Datasheet; ComponentLink2URL: http://www.analog.com/static/imported-files/data_sheets/AD7249.pdf; ComponentLink3Description: Package Specification; ComponentLink3URL: http://www.analog.com/static/imported-files/packages/PKG_PDF/SOIC_WIDE%20%28RW%29/RW_16.pdf; ComponentLink4Description: Product URL; ComponentLink4URL: http://www.analog.com/en/digital-to-analog-converters/da-converters/ad7249/products/product.html
footprint RW-16_N (SOIC, 16-Leads, Body 10.3x7.5mm, Pitch 1.27mm, IPC Medium Density)
footprint RW-16_L (SOIC, 16-Leads, Body 10.3x7.5mm, Pitch 1.27mm, IPC High Density)
footprint RW-16_M (SOIC, 16-Leads, Body 10.3x7.5mm, Pitch 1.27mm, IPC Low Density)
pins: 1 REFOUT (out) "Voltage Reference Output. The internal 5 V analog reference is provided at this pin. To operate the part using its internal reference, REFOUT should be connected to REFIN.", 2 REFIN (in) "Voltage Reference Input. It is internally buffered before being applied to both DACs. The nominal reference voltage for specified operation of the AD7249 is 5 V.", 3 ROFSB (in) "Output Offset Resistor for the amplifier of DAC B. It is connected to VOUTB for the +5 V range, to AGND for the +10 V range and to REFIN for the -5 V to +5 V range.", 4 VOUTB (out) "Analog Output Voltage of DAC B. This is the buffer amplifier output voltage. Three different output voltage ranges can be chosen: 0 V to +5 V, 0 V to +10 V and -5 V to +5 V.", 5 AGND (power) "Analog Ground. Ground reference for all analog circuitry.", 6 ~{CLR} (in) "Clear, Logic Input. Taking this input low clears both DACs. It sets VOUTA and VOUTB to 0 V in both unipolar ranges and the twos complement bipolar range and to -REFIN in the offset binary bipolar range.", 7 ~{BIN}/COMP (in) "Logic Input. This input selects the data format to be either binary or twos complement. In both unipolar ranges natural binary format is selected by connecting this input to a Logic "0". In the bipolar configuration offset (See Datasheet)", 8 DGND (power) "Digital Ground. Ground reference for all digital circuitry", 9 SDIN (in) "Serial Data In, Logic Input. The 16-bit serial data word is applied to this input.", 10 ~{LDAC} (in) "Load DAC, Logic Input. Updates both DAC outputs. The DAC outputs are updated on the falling edge of this signal or alternatively if this line is permanently low, an automatic update mode is selected whereby both DACs are (See Datasheet)", 11 SCLK (in) "Serial Clock, Logic Input. Data is clocked into the input register on each falling SCLK edge.", 12 ~{SYNC} (in) "Data Synchronization Pulse, Logic Input. Taking this input low initializes the internal logic in readiness for a new data word.", 13 VDD (power) "Positive Power Supply", 14 VOUTA (out) "Analog Output Voltage of DAC A. This is the buffer amplifier output voltage. Three different output voltage ranges can be chosen: 0 V to +5 V, 0 V to +10 V and -5 V to +5 V", 15 VSS (power) "Negative Power Supply (used for the output amplifier only) may be connected to 0 V for single supply operation or -12 V to -15 V for dual supplies.", 16 ROFSA (in) "Output Offset Resistor for the amplifier of DAC A. It is connected to VOUTA for the +5 V range, to AGND for the +10 V range and to REFIN for the -5 V to +5 V range."

## AD7249BNZ
designator U?
Dual 12-Bit LC2MOS DACPORT, -40 to +85 degC, N-16, Pb-Free, Tube; Generic Part Number: AD7249; Manufacturer: Analog Devices; PartNumber: AD7249BNZ; # DAC Outputs: 2; Max V+: 16.5V; Op Pwr Diss: 300mW; Resolution (Bits): 12; Settling Time: 7µs; Single Supply: Yes; DatasheetVersion: Rev.C; PackageVersion: 070706-A; PackageReference: N-16; PackageDescription: 16-Lead Plastic Dual In-Line Package [PDIP] Narrow Body; Supplier 1: Digi-Key; Supplier Part Number 1: AD7249BNZ-ND; Supplier 2: Mouser; Supplier Part Number 2: 584-AD7249BNZ; Packing: Tube; RoHS: Y; Mounting Technology: Through Hole; Code_JEDEC: MS-001; ComponentLink1Description: Manufacturer URL; ComponentLink1URL: http://www.analog.com/en/index.html; ComponentLink2Description: Datasheet; ComponentLink2URL: http://www.analog.com/static/imported-files/data_sheets/AD7249.pdf; ComponentLink3Description: Package Specification; ComponentLink3URL: http://www.analog.com/static/imported-files/packages/44768431550332N_16.pdf; ComponentLink4Description: Product URL; ComponentLink4URL: http://www.analog.com/en/digital-to-analog-converters/da-converters/ad7249/products/product.html
footprint N-16 (DIP, 16-Leads, Row Spacing 7.62mm, Pitch 2.54mm, Body 20.1x6.6mm)
pins: 1 REFOUT (out) "Voltage Reference Output. The internal 5 V analog reference is provided at this pin. To operate the part using its internal reference, REFOUT should be connected to REFIN.", 2 REFIN (in) "Voltage Reference Input. It is internally buffered before being applied to both DACs. The nominal reference voltage for specified operation of the AD7249 is 5 V.", 3 ROFSB (in) "Output Offset Resistor for the amplifier of DAC B. It is connected to VOUTB for the +5 V range, to AGND for the +10 V range and to REFIN for the -5 V to +5 V range.", 4 VOUTB (out) "Analog Output Voltage of DAC B. This is the buffer amplifier output voltage. Three different output voltage ranges can be chosen: 0 V to +5 V, 0 V to +10 V and -5 V to +5 V.", 5 AGND (power) "Analog Ground. Ground reference for all analog circuitry.", 6 ~{CLR} (in) "Clear, Logic Input. Taking this input low clears both DACs. It sets VOUTA and VOUTB to 0 V in both unipolar ranges and the twos complement bipolar range and to -REFIN in the offset binary bipolar range.", 7 ~{BIN}/COMP (in) "Logic Input. This input selects the data format to be either binary or twos complement. In both unipolar ranges natural binary format is selected by connecting this input to a Logic "0". In the bipolar configuration offset (See Datasheet)", 8 DGND (power) "Digital Ground. Ground reference for all digital circuitry.", 9 SDIN (in) "Serial Data In, Logic Input. The 16-bit serial data word is applied to this input.", 10 ~{LDAC} (in) "Load DAC, Logic Input. Updates both DAC outputs. The DAC outputs are updated on the falling edge of this signal or alternatively if this line is permanently low, an automatic update mode is selected whereby both DACs are (See Datasheet)", 11 SCLK (in) "Serial Clock, Logic Input. Data is clocked into the input register on each falling SCLK edge.", 12 ~{SYNC} (in) "Data Synchronization Pulse, Logic Input. Taking this input low initializes the internal logic in readiness for a new data word.", 13 VDD (power) "Positive Power Supply.", 14 VOUTA (out) "Analog Output Voltage of DAC A. This is the buffer amplifier output voltage. Three different output voltage ranges can be chosen: 0 V to +5 V, 0 V to +10 V and -5 V to +5 V.", 15 VSS (power) "Negative Power Supply (used for the output amplifier only) may be connected to 0 V for single supply operation or -12 V to -15 V for dual supplies.", 16 ROFSA (in) "Output Offset Resistor for the amplifier of DAC A. It is connected to VOUTA for the +5 V range, to AGND for the +10 V range and to REFIN for the -5 V to +5 V range."

## AD7249BR
designator U?
Dual 12-Bit LC2MOS DACPORT, -40 to +85 degC, RW-16, Tube; Generic Part Number: AD7249; Manufacturer: Analog Devices; PartNumber: AD7249BR; # DAC Outputs: 2; Max V+: 16.5V; Op Pwr Diss: 300mW; Resolution (Bits): 12; Settling Time: 7µs; Single Supply: Yes; DatasheetVersion: Rev.C; PackageVersion: 032707-B; PackageReference: RW-16; PackageDescription: 16-Lead Standard Small Outline Package [SOIC_W]; Supplier 1: Digi-Key; Supplier Part Number 1: AD7249BR-ND; Supplier 2: Mouser; Supplier Part Number 2: 584-AD7249BR; Packing: Tube; RoHS: N; Mounting Technology: Surface Mount; Code_JEDEC: MS-013-AA; Code_IPC: SOIC127P1030-16; ComponentLink1Description: Manufacturer URL; ComponentLink1URL: http://www.analog.com/en/index.html; ComponentLink2Description: Datasheet; ComponentLink2URL: http://www.analog.com/static/imported-files/data_sheets/AD7249.pdf; ComponentLink3Description: Package Specification; ComponentLink3URL: http://www.analog.com/static/imported-files/packages/PKG_PDF/SOIC_WIDE%20%28RW%29/RW_16.pdf; ComponentLink4Description: Product URL; ComponentLink4URL: http://www.analog.com/en/digital-to-analog-converters/da-converters/ad7249/products/product.html
footprint RW-16_N (SOIC, 16-Leads, Body 10.3x7.5mm, Pitch 1.27mm, IPC Medium Density)
footprint RW-16_L (SOIC, 16-Leads, Body 10.3x7.5mm, Pitch 1.27mm, IPC High Density)
footprint RW-16_M (SOIC, 16-Leads, Body 10.3x7.5mm, Pitch 1.27mm, IPC Low Density)
pins: 1 REFOUT (out) "Voltage Reference Output. The internal 5 V analog reference is provided at this pin. To operate the part using its internal reference, REFOUT should be connected to REFIN.", 2 REFIN (in) "Voltage Reference Input. It is internally buffered before being applied to both DACs. The nominal reference voltage for specified operation of the AD7249 is 5 V.", 3 ROFSB (in) "Output Offset Resistor for the amplifier of DAC B. It is connected to VOUTB for the +5 V range, to AGND for the +10 V range and to REFIN for the -5 V to +5 V range.", 4 VOUTB (out) "Analog Output Voltage of DAC B. This is the buffer amplifier output voltage. Three different output voltage ranges can be chosen: 0 V to +5 V, 0 V to +10 V and -5 V to +5 V.", 5 AGND (power) "Analog Ground. Ground reference for all analog circuitry.", 6 ~{CLR} (in) "Clear, Logic Input. Taking this input low clears both DACs. It sets VOUTA and VOUTB to 0 V in both unipolar ranges and the twos complement bipolar range and to -REFIN in the offset binary bipolar range.", 7 ~{BIN}/COMP (in) "Logic Input. This input selects the data format to be either binary or twos complement. In both unipolar ranges natural binary format is selected by connecting this input to a Logic "0". In the bipolar configuration offset (See Datasheet)", 8 DGND (power) "Digital Ground. Ground reference for all digital circuitry", 9 SDIN (in) "Serial Data In, Logic Input. The 16-bit serial data word is applied to this input.", 10 ~{LDAC} (in) "Load DAC, Logic Input. Updates both DAC outputs. The DAC outputs are updated on the falling edge of this signal or alternatively if this line is permanently low, an automatic update mode is selected whereby both DACs are (See Datasheet)", 11 SCLK (in) "Serial Clock, Logic Input. Data is clocked into the input register on each falling SCLK edge.", 12 ~{SYNC} (in) "Data Synchronization Pulse, Logic Input. Taking this input low initializes the internal logic in readiness for a new data word.", 13 VDD (power) "Positive Power Supply", 14 VOUTA (out) "Analog Output Voltage of DAC A. This is the buffer amplifier output voltage. Three different output voltage ranges can be chosen: 0 V to +5 V, 0 V to +10 V and -5 V to +5 V", 15 VSS (power) "Negative Power Supply (used for the output amplifier only) may be connected to 0 V for single supply operation or -12 V to -15 V for dual supplies.", 16 ROFSA (in) "Output Offset Resistor for the amplifier of DAC A. It is connected to VOUTA for the +5 V range, to AGND for the +10 V range and to REFIN for the -5 V to +5 V range."